# Altium schematic symbol library Wireless_thermometer.SchLib: 30 symbols
Pins are listed as number, name and electrical type; pins without a type are passive.

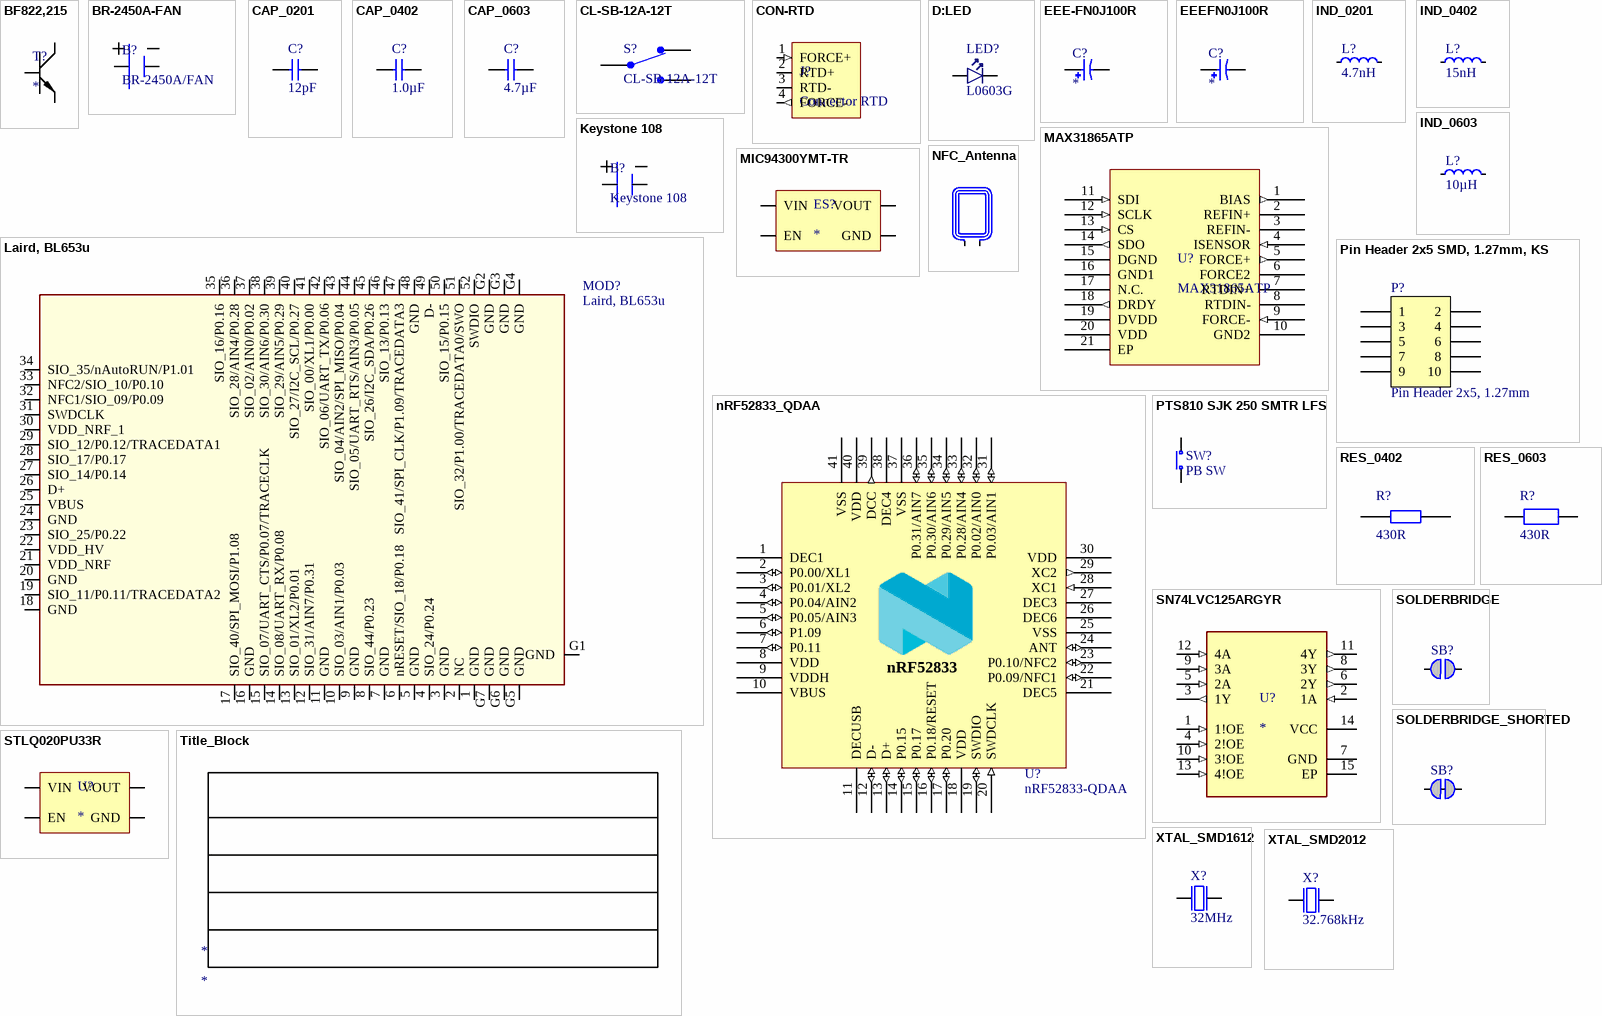
[diagram p0: symbols BF822,215 to XTAL_SMD2012]

## BF822,215
designator T?
TRANS NPN 250V 0.05A SOT23; Manufacturer: Nexperia; Manufacturer Part Number: BF822,215; Supplier 1: RSComponents; RoHS: Yes; Category: BJTs; Stock 1: 295; Pricing 1: 5=0,59700, 25=0,55900, 50=0,53300, 125=0,49800, 250=0,48100 (USD); RoHS Compliant: Yes; ComponentLink1URL: https://assets.nexperia.com/documents/data-sheet/BF820_BF822.pdf?src-supplier=Digi-Key; ComponentLink1Description: https://assets.nexperia.com/documents/data-sheet/BF820_BF822.pdf?src-supplier=Digi-Key; Supplier Part Number 1: 1777228
footprint SOT23-3
pins: 1 B, 2 E (power), 3 C (power)

## BR-2450A-FAN
designator B?, comment BR-2450A/FAN
Battery, Non-Rechargeable, Coin/Button, Lithium, 3 VDC, 620mAh, Solder Tab, BR Series; Manufacturer: Panasonic BSG; Capacity: 550mAh; Output Voltage: 3V; Supplier 1: RSComponents; Manufacturer Part Number: BR-2450A/FAN; RoHS: Yes; Category: Uncategorized; Stock 1: 833; Pricing 1: 1=9,94500, 10=9,69000, 50=9,43600, 100=9,15400, 500=8,95300 (USD); Case/Package: SMD/SMT; Weight: 0.134041oz; Chemistry/Technology: Lithium; Package Quantity: 200; Voltage Rating: 3V; Termination: SMD/SMT; ComponentLink1URL: https://datasheet.ciiva.com/3/br-2450a-fan-3095.pdf?src-supplier=Digi-Key; ComponentLink1Description: https://datasheet.ciiva.com/3/br-2450a-fan-3095.pdf?src-supplier=Digi-Key; ComponentLink2URL: https://datasheet.ciiva.com/3773/aad4000de26-3773187.pdf?src-supplier=Arrow+Electronics; ComponentLink2Description: https://datasheet.ciiva.com/3773/aad4000de26-3773187.pdf?src-supplier=Arrow+Electronics; Supplier Part Number 1: 1839484
footprint BR2450A/FAN
footprint BR2450A-FAN
pins: 1 +, 2 -

## CAP_0201
designator C?, comment 12pF
Capacitor, NP0, ±2%; Part Number: C0201-12p; LatestRevisionDate: 2017-11-09; Pin Count: 2; Publisher: Nordic Semiconductor; Published: 2014-11-13; Value: 12pF; Footprint Doc: 0201
footprint CAPC0603X03L_C
pins: 1, 2

## CAP_0402
designator C?, comment 1.0µF
Capacitor, X7R, ±15%; Part Number: C0402-1µ0; LatestRevisionDate: 2016-08-22; Pin Count: 2; Publisher: Nordic Semiconductor; Published: 2009-05-08; Value: 1.0µF; Footprint Doc: 0402
footprint CAPC1005X04L
footprint CAPC1005X04L
pins: 1, 2

## CAP_0603
designator C?, comment 4.7µF
Capacitor, X7R, ±10%; Part Number: C0603-4µ7-6.3V-X7R; LatestRevisionDate: 2015-06-10; Pin Count: 2; Publisher: Nordic Semiconductor; Published: 2015-06-10; Value: 4.7µF; Footprint Doc: 0603
footprint CAPC1608X06L
footprint CAPC1608X06L
pins: 1, 2

## CL-SB-12A-12T
designator S?
Slide Switch, 2 Positions, SPDT, Latched, 0.2A, 12VDC, Solder Terminal, Through Hole-right Angle; Manufacturer: Nidec Copal; Actuator Material: Nylon,Polyamide; Contact Style: Non-Shorting; Electrical Life: 10000Cycles; Actuator Type: Standard; Switch Function: On-On; Switch Travel: 2mm; Current Rating: 200mA; Voltage Rating (DC): 12V; Operating Force: 153gf; Supplier 1: Newark; Manufacturer Part Number: CL-SB-12A-12T; RoHS: Yes; Category: Slide Switches; Stock 1: 490; Pricing 1: 1=1,08000, 10=1,03000, 25=0,97200, 50=0,91300, 100=0,85000, 250=0,78000 (USD); Mount: Surface Mount; Contact Plating: Gold; Contact Material: Copper; Min Operating Temperature: -40°C; Max Operating Temperature: 85°C; Throw Configuration: SPDT; Packaging: Tape and Reel; Actuator Length: 2mm; ComponentLink1URL: https://datasheet.ciiva.com/6462/cl-sb-6462005.pdf?src-supplier=Digi-Key; ComponentLink1Description: https://datasheet.ciiva.com/6462/cl-sb-6462005.pdf?src-supplier=Digi-Key; ComponentLink2URL: https://datasheet.ciiva.com/6462/cl-sb-6462006.pdf?src-supplier=Digi-Key; ComponentLink2Description: https://datasheet.ciiva.com/6462/cl-sb-6462006.pdf?src-supplier=Digi-Key; ComponentLink3URL: https://datasheet.ciiva.com/6462/cl-sb-6462009.pdf?src-supplier=Digi-Key; ComponentLink3Description: https://datasheet.ciiva.com/6462/cl-sb-6462009.pdf?src-supplier=Digi-Key; Supplier Part Number 1: 56AC5276
footprint CL-SB-12A-12T
pins: 1, 2, 3

## CON-RTD
designator J?, comment Connector RTD
footprint CON-RTD
footprint CON-RTD
pins: 1 FORCE+ (in), 2 RTD+, 3 RTD-, 4 FORCE- (out)

## D:LED
designator LED?, comment L0603G
LED, Green, 0603, 573nm, Vf=2.0V, 24mcd, - 40 to +85°C; Part Number: VS 25C7M5; Manufacturer: Victory Electronics; Part number IPS: N.A.; Artikkelnr Noca: 13019193; Manufacturer Part Number: VS 25C7M5; Footprint Doc: 0603; LatestRevisionDate: 2017-08-21; Pin Count: 2; Publisher: Nordic Semiconductor; Published: 2017-08-21; Value: L0603G; Note: *; ComponentLink1URL: *; ComponentLink1Description: Datasheet; ComponentLink2URL: *; ComponentLink2Description: Supplier link; HelpURL: \\hizz\pro\app9717\Datasheet\optoelectronics\Victory Electronics\VS 25C7M5.pdf; Supplier 1: EC Partner; Supplier Part Number 1: *; Supplier 2: *; Supplier Part Number 2: *
footprint LED_0603_G
footprint LED_0603_G
pins: 1 C, 2 A

## EEE-FN0J100R
designator C?
Cap Aluminum 10uF 6.3V 20% Cylindrical 1.35 Ohm 90mA 2000 hr 105°C Emboss T/R; Manufacturer: Panasonic; Manufacturer Part Number: EEE-FN0J100R; Supplier 1: RSComponents; RoHS: No; Category: Aluminum Electrolytic Capacitors; Stock 1: 3480; Pricing 1: 100=0,12100, 260=0,11000, 1000=0,09900 (GBP); Supplier Part Number 1: 2043361P
footprint CAP_EEEFN0J100R
pins: 1, 2

## EEEFN0J100R
designator C?
Cap Aluminum Lytic 10uF 6.3V 20% (4 X 5.8mm) SMD 1.35 Ohm 90mA 2000h 105Â°C Automotive T/R; MF: Panasonic; MP: EEEFN0J100R; Package: RADIAL-2 Panasonic; Digi-Key_Part_Number: 10-EEE-FN0J100RCT-ND; SnapEDA_Link: https://www.snapeda.com/parts/EEEFN0J100R/Panasonic/view-part/5794125/?ref=snap; Check_prices: https://www.snapeda.com/parts/EEEFN0J100R/Panasonic/view-part/5794125/?ref=eda; Value: *
footprint CAP_EEEFN0J100R
footprint CAP_EEEFN0J100R
footprint CAP_EEEFN0J100R
footprint CAP_EEEFN0J100R
pins: 1, 2

## IND_0201
designator L?, comment 4.7nH
High frequency chip inductor ±5%; Part Number: L0201-4n7; LatestRevisionDate: 2013-04-10; Pin Count: 2; Publisher: Nordic Semiconductor; Published: 2013-04-10; Value: 4.7nH; Footprint Doc: 0201
footprint INDC0603X03L_C
footprint INDC0603X03L_C
pins: 1, 2

## IND_0402
designator L?, comment 15nH
High frequency chip inductor ±10%; Part Number: L0402-15n; LatestRevisionDate: 2012-09-19; Pin Count: 2; Publisher: Nordic Semiconductor; Published: 2010-07-12; Value: 15nH; Footprint Doc: 0402
footprint INDC1005X04L
footprint INDC1005X04L (Chip Inductor, 2-Leads, Body 1.0x0.5mm, IPC High Density)
pins: 1, 2

## IND_0603
designator L?, comment 10µH
Chip inductor, IDC,min = 50 mA, ±20%; Part Number: L0603-10µ-TDK; LatestRevisionDate: 2012-09-19; Pin Count: 2; Publisher: Nordic Semiconductor; Published: 2019-05-06; Value: 10µH; Footprint Doc: 0603
footprint INDC1608X06L
footprint INDC1608X06L (Chip Inductor, 2-Leads, Body 1.6x0.8mm, IPC High Density)
pins: 1, 2

## Keystone 108
designator B?
Tip Plg 108 Phe Bagged NKL#9HHS108; Manufacturer: Keystone Electronics; Manufacturer Part Number: 108; Body Material: Plastic; Number of Batteries: 1; Lead Length: 3.56mm; Approvals: UL; Supplier 1: Digi-Key; RoHS: Yes; Category: Batteries and Accessories; Stock 1: 10973; Pricing 1: 1=1,50000, 25=1,27160, 100=1,04920, 250=0,96544, 500=0,90634, 1000=0,84723, 2500=0,76842, 5000=0,70931 (USD); Mount: Through Hole,PCB,Screw; Number of Pins: 2; Material: Brass,Plastic; Contact Plating: Nickel,Tin; Contact Material: Brass,Nickel; Min Operating Temperature: -50°C; Max Operating Temperature: 145°C; Package Quantity: 1; Packaging: Tray; Termination: PC Pin; Number of Cells: 1; Series: -; Lead Free: Lead Free; REACH SVHC: No SVHC; ComponentLink1URL: https://datasheet.ciiva.com/3/108-3991.pdf?src-supplier=Digi-Key; ComponentLink1Description: https://datasheet.ciiva.com/3/108-3991.pdf?src-supplier=Digi-Key; ComponentLink2URL: https://datasheet.ciiva.com/1391/1718250-1391263.pdf?src-supplier=Element14; ComponentLink2Description: https://datasheet.ciiva.com/1391/1718250-1391263.pdf?src-supplier=Element14; ComponentLink3URL: https://datasheet.ciiva.com/20221/18-0102-20221614.pdf?src-supplier=Rapid+Electronics; ComponentLink3Description: https://datasheet.ciiva.com/20221/18-0102-20221614.pdf?src-supplier=Rapid+Electronics; ComponentLink4URL: https://datasheet.ciiva.com/20221/18-2995-20221661.pdf?src-supplier=Rapid+Electronics; ComponentLink4Description: https://datasheet.ciiva.com/20221/18-2995-20221661.pdf?src-supplier=Rapid+Electronics; ComponentLink5URL: https://datasheet.ciiva.com/16322/m60-2p18-16322534.pdf?src-supplier=Future+Electronics; ComponentLink5Description: https://datasheet.ciiva.com/16322/m60-2p18-16322534.pdf?src-supplier=Future+Electronics; Supplier Part Number 1: 36-108-ND
footprint Keystone 108
pins: 1, 2

## Laird, BL653u
designator MOD?
BL653µ Integrated Antenna module, 453-00059; Substitutes Allowed: NO; Datasheet Link: https://connectivity-staging.s3.us-east-2.amazonaws.com/s3fs-public/2018-12/BL654%20Datasheet%20v1_6.pdf; Mounting: SMT; Operating Temperature: -40C~85C; Manufacturer Part Number: 453-00059; Manufacturer: Laird; Footprint: Laird, Module, BL653u-SA
footprint Laird, BL653u
pins: 1 GND, 2 NC, 3 GND, 4 SIO_24/P0.24, 5 GND, 6 nRESET/SIO_18/P0.18, 7 GND, 8 SIO_44/P0.23, 9 GND, 10 SIO_03/AIN1/P0.03, 11 GND, 12 SIO_31/AIN7/P0.31, 13 SIO_01/XL2/P0.01, 14 SIO_08/UART_RX/P0.08, 15 SIO_07/UART_CTS/P0.07/TRACECLK, 16 GND, 17 SIO_40/SPI_MOSI/P1.08, 18 GND, 19 SIO_11/P0.11/TRACEDATA2, 20 GND, 21 VDD_NRF, 22 VDD_HV, 23 SIO_25/P0.22           , 24 GND, 25 VBUS, 26 D+, 27 SIO_14/P0.14, 28 SIO_17/P0.17, 29 SIO_12/P0.12/TRACEDATA1, 30 VDD_NRF_1, 31 SWDCLK, 32 NFC1/SIO_09/P0.09, 33 NFC2/SIO_10/P0.10, 34 SIO_35/nAutoRUN/P1.01, 35 SIO_16/P0.16, 36 SIO_28/AIN4/P0.28, 37 SIO_02/AIN0/P0.02, 38 SIO_30/AIN6/P0.30, 39 SIO_29/AIN5/P0.29, 40 SIO_27/I2C_SCL/P0.27, 41 SIO_00/XL1/P0.00, 42 SIO_06/UART_TX/P0.06, 43 SIO_04/AIN2/SPI_MISO/P0.04, 44 SIO_05/UART_RTS/AIN3/P0.05, 45 SIO_26/I2C_SDA/P0.26, 46 SIO_13/P0.13, 47 SIO_41/SPI_CLK/P1.09/TRACEDATA3, 48 GND, 49 D-, 50 SIO_15/P0.15, 51 SIO_32/P1.00/TRACEDATA0/SWO, 52 SWDIO, G1 GND, G2 GND, G3 GND, G4 GND, G5 GND, G6 GND, G7 GND

## MAX31865ATP
designator U?
Circuit Protection Misc Resistance Temperature Detector to Digital Converter; Manufacturer: Maxim; Manufacturer Part Number: MAX31865ATP+T; Interface: SPI; Supplier 1: Future Electronics; RoHS: Yes; Category: Power Management ICs; Pricing 1: 2500=4,42000 (USD); Case/Package: QFN; Number of Pins: 20; Min Operating Temperature: -40°C; Max Operating Temperature: 125°C; Packaging: Tape and Reel; Package Quantity: 2500; Output Type: SPI; Series: -; Radiation Hardening: No; RoHS Compliant: Yes; ComponentLink1URL: https://datasheet.ciiva.com/14320/max31865-14320743.pdf?src-supplier=Avnet; ComponentLink1Description: https://datasheet.ciiva.com/14320/max31865-14320743.pdf?src-supplier=Avnet; ComponentLink2URL: https://datasheet.ciiva.com/25893/max31865-25893916.pdf?src-supplier=Avnet+Europe; ComponentLink2Description: https://datasheet.ciiva.com/25893/max31865-25893916.pdf?src-supplier=Avnet+Europe; ComponentLink3URL: https://datasheet.ciiva.com/14083/max31865-14083679.pdf?src-supplier=Digi-Key; ComponentLink3Description: https://datasheet.ciiva.com/14083/max31865-14083679.pdf?src-supplier=Digi-Key; Supplier Part Number 1: 9084949
footprint 21-0140L_T2055-5_MXM-L
footprint 21-0140L_T2055-5_MXM-L
pins: 1 BIAS (out), 2 REFIN+, 3 REFIN-, 4 ISENSOR (in), 5 FORCE+ (out), 6 FORCE2, 7 RTDIN+, 8 RTDIN-, 9 FORCE- (in), 10 GND2, 11 SDI (in), 12 SCLK (in), 13 CS (in), 14 SDO (out), 15 DGND, 16 GND1, 17 N.C., 18 DRDY (out), 19 DVDD (power), 20 VDD (power), 21 EP

## MIC94300YMT-TR
designator ES?
MIC94300 Series Single 3.6 V 200 mA Ripple Blocker Technology Load Switch -MLF-4; Manufacturer: Microchip; Manufacturer Part Number: MIC94300YMT-TR; Number of Outputs: 1; Output Current: 200mA; Interface: On/Off; Output Configuration: High Side; Turn-On Delay Time: 150us; Max Supply Current: 1uA; Fault Protection: Over Temperature; Operating Supply Voltage: 3.6V; Supplier 1: Digi-Key; RoHS: Yes; Category: Hot Swap Controllers; Stock 1: 47472; Pricing 1: 1=0,34000, 25=0,30000 (USD); Mount: Surface Mount; Number of Pins: 4; Min Operating Temperature: -40°C; Max Operating Temperature: 125°C; Packaging: Tape and Reel; Package Quantity: 5000; Max Output Current: 200mA; Series: Ripple Blocker™; Current Rating: 200mA; Rated Current-Max: 200mA; Radiation Hardening: No; RoHS Compliant: Yes; Lead Free: Lead Free; REACH SVHC: No SVHC; ComponentLink1URL: https://datasheet.ciiva.com/1957/mic94300-1957169.pdf?src-supplier=Digi-Key; ComponentLink1Description: https://datasheet.ciiva.com/1957/mic94300-1957169.pdf?src-supplier=Digi-Key; ComponentLink2URL: https://datasheet.ciiva.com/22629/1563190-22629143.pdf?src-supplier=Element14; ComponentLink2Description: https://datasheet.ciiva.com/22629/1563190-22629143.pdf?src-supplier=Element14; ComponentLink3URL: https://datasheet.ciiva.com/1955/mic94300-1955787.pdf?src-supplier=Digi-Key; ComponentLink3Description: https://datasheet.ciiva.com/1955/mic94300-1955787.pdf?src-supplier=Digi-Key; ComponentLink4URL: https://datasheet.ciiva.com/1956/mic94300-1956219.pdf?src-supplier=Digi-Key; ComponentLink4Description: https://datasheet.ciiva.com/1956/mic94300-1956219.pdf?src-supplier=Digi-Key; ComponentLink5URL: https://datasheet.ciiva.com/15200/getdatasheetpartid-478360-15200797.pdf?src-supplier=Verical; ComponentLink5Description: https://datasheet.ciiva.com/15200/getdatasheetpartid-478360-15200797.pdf?src-supplier=Verical; Supplier Part Number 1: 576-4011-1-ND
footprint MIC94300YMT-TR
pins: 1 EN, 2 GND, 3 VOUT, 4 VIN

## NFC_Antenna
designator A?, comment NFC Antenna  (value not drawn)  (no BOM)
Part Number: NFC_ANT_TP; Footprint Doc: TP_2x1mm_TH; LatestRevisionDate: 2016-02-23; Pin Count: 2; Publisher: Nordic Semiconductor; Published: 2016-02-23; Value: NFC Antenna
footprint TP_2x1mm_TH
pins: 1, 2

## nRF52833_QDAA
designator U?, comment nRF52833-QDAA
Multi-protocol Bluetooth Low Energy, IEEE 802.15.4, ANT and 2.4GHz proprietary system-on-chip; Manufacturer: Nordic Semiconductor; Part Number: nRF52833-QDAA; Manufacturer Part Number: nRF52833-QDAA; LatestRevisionDate: 2018-12-03; Pin Count: 40; Publisher: Nordic Semiconductor; Published: 2018-12-03; Value: nRF52833-QDAA; Footprint Doc: QFN-40
footprint QFN40P500X500X50_HS-41N
footprint QFN40P500X500X50_HS-41N
pins: 1 DEC1 (power), 2 P0.00/XL1 (io), 3 P0.01/XL2 (io), 4 P0.04/AIN2 (io), 5 P0.05/AIN3 (io), 6 P1.09 (io), 7 P0.11 (io), 8 VDD (power), 9 VDDH (power), 10 VBUS (power), 11 DECUSB (power), 12 D- (io), 13 D+ (io), 14 P0.15 (io), 15 P0.17 (io), 16 P0.18/RESET (io), 17 P0.20 (io), 18 VDD (power), 19 SWDIO (io), 20 SWDCLK (in), 21 DEC5 (power), 22 P0.09/NFC1 (io), 23 P0.10/NFC2 (io), 24 ANT (io), 25 VSS (power), 26 DEC6 (power), 27 DEC3 (power), 28 XC1 (in), 29 XC2 (out), 30 VDD (power), 31 P0.03/AIN1 (io), 32 P0.02/AIN0 (io), 33 P0.28/AIN4 (io), 34 P0.29/AIN5 (io), 35 P0.30/AIN6 (io), 36 P0.31/AIN7 (io), 37 VSS (power), 38 DEC4 (power), 39 DCC (out), 40 VDD (power), 41 VSS (power)
text: nRF52833

## Pin Header 2x5 SMD, 1.27mm, KS
designator P?, comment Pin Header 2x5, 1.27mm
Pin Header 2x5, 1.27mm (50mil), SMD, Keying Shroud; Part Number: Pin Header 2x5 SMD, 1.27mm, KS; Manufacturer: W-CON; Manufacturer Part Number: 3132-10MS0BK00R1; Part number IPS: 00000009968; Artikkelnr Noca: 55010009; Footprint Doc: HDR_2x5-SMD-1.27mm; LatestRevisionDate: 2016-04-21; Pin Count: 10; Publisher: Nordic Semiconductor; Published: 2016-01-22; Value: Pin Header 2x5, 1.27mm; Note: *; ComponentLink1URL: *; ComponentLink1Description: Datasheet; ComponentLink2URL: *; ComponentLink2Description: Supplier link; HelpURL: \\hizz\pro\app9717\Datasheet\connectores\W-CON\3132-XXMXXBK00XX.pdf; Supplier 1: Cabcon; Supplier Part Number 1: 3132-10MS0BK00R1; Supplier 2: Samtec; Supplier Part Number 2: FTSH-105-01-F-DV-K
footprint HDR_2x5-SMD-1.27mm-K
footprint HDR_2x5-SMD-1.27mm-K
pins: 1, 2, 3, 4, 5, 6, 7, 8, 9, 10

## PTS810 SJK 250 SMTR LFS
designator SW?, comment PB SW
Tactile Switch, SPNO, SMD, 260gf, 4.2x3.2x2.5mm; Part Number: PTS810 SJK 250 SMTR LFS; Manufacturer: C&K Components; Part number IPS: 00000001259; Artikkelnr Noca: N.A.; Manufacturer Part Number: PTS810 SJK 250 SMTR LFS; LatestRevisionDate: 2017-11-09; Pin Count: 4; Publisher: Nordic Semiconductor; Published: 2017-09-18; Value: PB SW; Note: *; Footprint Doc: PTS810; ComponentLink1Description: Datasheet; ComponentLink1URL: *; ComponentLink2Description: Supplier link; ComponentLink2URL: *; HelpURL: http://www.ckswitches.com/media/1476/pts810.pdf; Supplier 1: Digi-Key; Supplier Part Number 1: CKN10503TR-ND; Supplier 2: *; Supplier Part Number 2: *
footprint C&K_PTS810
footprint C&K_PTS810
pins: 1 N.O, 2 COM

## RES_0402
designator R?, comment 430R
Resistor; Part Number: R0603-430R; LatestRevisionDate: 2015-06-10; Pin Count: 2; Publisher: Nordic Semiconductor; Published: 2015-06-10; Value: 430R; Footprint Doc: 0603
footprint CAPC1608X06L
footprint CAPC1608X06L
footprint RESR1608X06
footprint RESC1005X04L
pins: 1, 2

## RES_0603
designator R?, comment 430R
Resistor; Part Number: R0603-430R; LatestRevisionDate: 2015-06-10; Pin Count: 2; Publisher: Nordic Semiconductor; Published: 2015-06-10; Value: 430R; Footprint Doc: 0603
footprint CAPC1608X06L
footprint CAPC1608X06L
footprint RESR1608X06
pins: 1, 2

## SN74LVC125ARGYR
designator U?
Quadruple Bus Buffer Gate With 3-State Outputs 14-VQFN -40 to 125; MP: SN74LVC125ARGYR; Value: *; Availability: Unavailable; Package: None; Price: None
footprint QFN50P350X350X100-15N
pins: 1 1!OE (in), 2 1A (in), 3 1Y (out), 4 2!OE (in), 5 2A (in), 6 2Y (out), 7 GND (power), 8 3Y (out), 9 3A (in), 10 3!OE (in), 11 4Y (out), 12 4A (in), 13 4!OE (in), 14 VCC (power), 15 EP (power)

## SOLDERBRIDGE
designator SB?, comment Solderbridge  (value not drawn)  (no BOM)
Artikkelnr Noca: N.A.; Part Number: Solderbridge; Manufacturer: *; Manufacturer Part Number: *; LatestRevisionDate: 2009-12-14; Pin Count: 2; Publisher: Nordic Semiconductor; Published: 2009-12-14; Value: Solderbridge; Note: *; Footprint Doc: Solderbridge; Part number IPS: N.A.; ComponentLink1URL: *; ComponentLink1Description: Datasheet; ComponentLink2URL: *; ComponentLink2Description: Supplier link; HelpURL: *; Supplier 1: *; Supplier Part Number 1: *; Supplier 2: *; Supplier Part Number 2: *
footprint Solderbridge
footprint Solderbridge
pins: 1 0, 2 1

## SOLDERBRIDGE_SHORTED
designator SB?, comment Solderbridge  (value not drawn)  (net tie, no BOM)
Shorted Solderbridge; Part Number: Solderbridge Shorted; Artikkelnr Noca: N.A.; Manufacturer: *; Manufacturer Part Number: *; LatestRevisionDate: 2012-08-07; Pin Count: 2; Publisher: Nordic Semiconductor; Published: 2012-08-07; Value: Solderbridge; Note: *; Footprint Doc: Solderbridge_Shorted; Part number IPS: N.A.; ComponentLink1URL: *; ComponentLink1Description: Datasheet; ComponentLink2URL: *; ComponentLink2Description: Supplier link; HelpURL: *; Supplier 1: *; Supplier Part Number 1: *; Supplier 2: *; Supplier Part Number 2: *
footprint Solderbridge_Shorted
footprint Solderbridge_Shorted
pins: 1 0, 2 1

## STLQ020PU33R
designator U?
Ldo, Fixed, 3.3V, 0.2A, -40 to 125DEG C;; Manufacturer: STMicroelectronics; Manufacturer Part Number: STLQ020PU33R; Supplier 1: Mouser; RoHS: No; Category: Uncategorized; Stock 1: 5768; Pricing 1: 1=0,60000, 10=0,49400, 50=0,49400, 100=0,40300, 1000=0,25500, 10000=0,24000 (USD); Supplier Part Number 1: 511-STLQ020PU33R
footprint STLQ020PU33R (Footprint not found)
footprint STLQ020PU33R (Footprint not found)
footprint STLQ020PU33R
pins: 1 VOUT, 3 GND, 4 EN, 6 VIN

## Title_Block
designator *

## XTAL_SMD1612
designator X?, comment 32MHz
XTAL SMD 1612, 32MHz, Cl=8pF, Total Tol: ±40ppm; Part Number: XTAL_SMD1612_32MHz_8pF_General; LatestRevisionDate: 2016-08-19; Pin Count: 4; Publisher: Nordic Semiconductor; Published: 2016-08-19; Value: 32MHz; Footprint Doc: XTAL_1612
footprint BT-XTAL_1612
footprint BT-XTAL_1612
footprint BT-XTAL_1612
footprint BT-XTAL_1612
pins: 1 inp, 2 GND hidden to GND, 3 out, 4 GND hidden to GND

## XTAL_SMD2012
designator X?, comment 32.768kHz
XTAL SMD 2012, 32.768kHz, Cl=9pF, Total Tol: ±50ppm; Part Number: XTAL_SMD2012_32.768kHz_9pF_General; LatestRevisionDate: 2017-01-11; Pin Count: 2; Publisher: Nordic Semiconductor; Published: 2016-08-19; Value: 32.768kHz; Footprint Doc: XTAL_2012
footprint XTAL_2012
footprint XTAL_2012
pins: 1 inp, 2 out